# Altium schematic symbol library sp0503bahtg.SchLib: 1 symbol
Pins are listed as number, name and electrical type; pins without a type are passive.

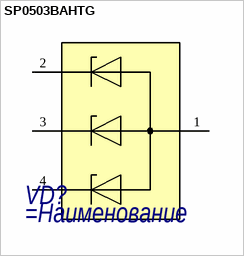
[diagram p0: symbol SP0503BAHTG]

## SP0503BAHTG
designator VD?
=Описание
pins: 1, 2, 3, 4